# EAGLE library part ESDA6V1U1 (library _PWM_driver)
6 channel uni-directional; 4 channel bi-directional ESD suppressor
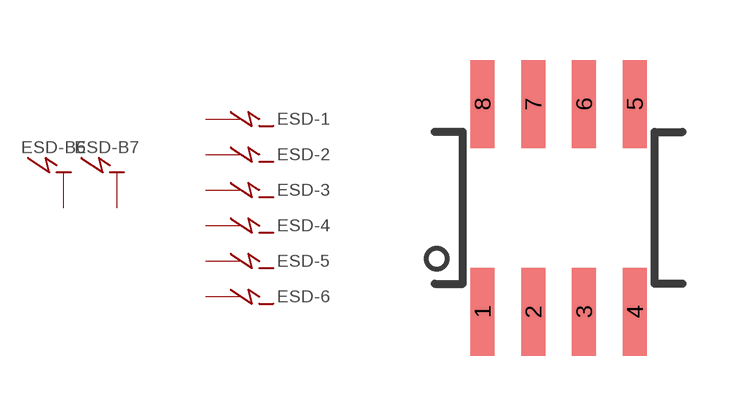
[diagram p6: symbol with the pads of SO08; footprint SO08]

Designator prefix ESD; gates -B6=ESD_BUS -1=ESD_SINK -2=ESD_SINK -3=ESD_SINK -4=ESD_SINK -5=ESD_SINK -6=ESD_SINK -B7=ESD_BUS

## ESDA6V1U1  [SO08]
1  -1:1
2  -2:1
3  -3:1
4  -4:1
5  -5:1
6  -B6:1
7  -B7:1
8  -6:1

## Footprint SO08 (pad centres in mm)
SMALL OUTLINE INTEGRATED CIRCUIT body 3.9 mm/JEDEC MS-012AA
smd 0.6 x 2.2: 1 -1.905,-2.6; 2 -0.635,-2.6; 3 0.635,-2.6; 4 1.905,-2.6; 5 1.905,2.6; 6 0.635,2.6; 7 -0.635,2.6; 8 -1.905,2.6